# EAGLE library part PAM2401 (library bschulz)
PAM2401 - Step-Up (Boost) DC-DC Converter Characteristics: Vin: 0.9V ~ 4.75V Vout: 2.5V ~ 5V Iout: 1A IQ: 150μA Operating Temperature: -40°C to 85°C Digikey: PAM2401SCADJDICT-ND <https://www.digikey.com/en/products/detail/diodes-incorporated/PAM2401SCADJ/4898817>
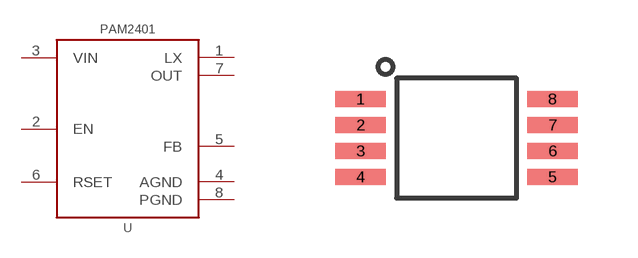
[diagram p171: symbol with the pads of MSOP_8; footprint MSOP_8]

Designator prefix U

## PAM2401MSOP (DIGIKEY: PAM2401SCADJDICT-ND; MF: Diodes Inc; MPN: PAM2401SCADJ)  [MSOP_8]
1  LX  pwr
2  EN  in
3  VIN  pwr
4  AGND  pwr
5  FB  in
6  RSET  in
7  OUT  pwr
8  PGND  pwr

## Footprint MSOP_8 (pad centres in mm)
MSOP, 3x3mm, o.65mm pitch
smd 1.26 x 0.4: 1 -2.4,0.975; 2 -2.4,0.325; 3 -2.4,-0.325; 4 -2.4,-0.975; 5 2.4,-0.975; 6 2.4,-0.325; 7 2.4,0.325; 8 2.4,0.975